# Altium footprint library SMD Footprints.PcbLib: 21 footprints (part 2 of 2)
Each footprint in its own frame and in the unit in brackets; x right, y up, seen from the top. Pads: shape width x height; smd on the part's side, far side on the other; paste and mask are expansions set on the pad; w line width, h text height; cw(c..) or ccw(c..) is an arc to the next point about the centre after c.
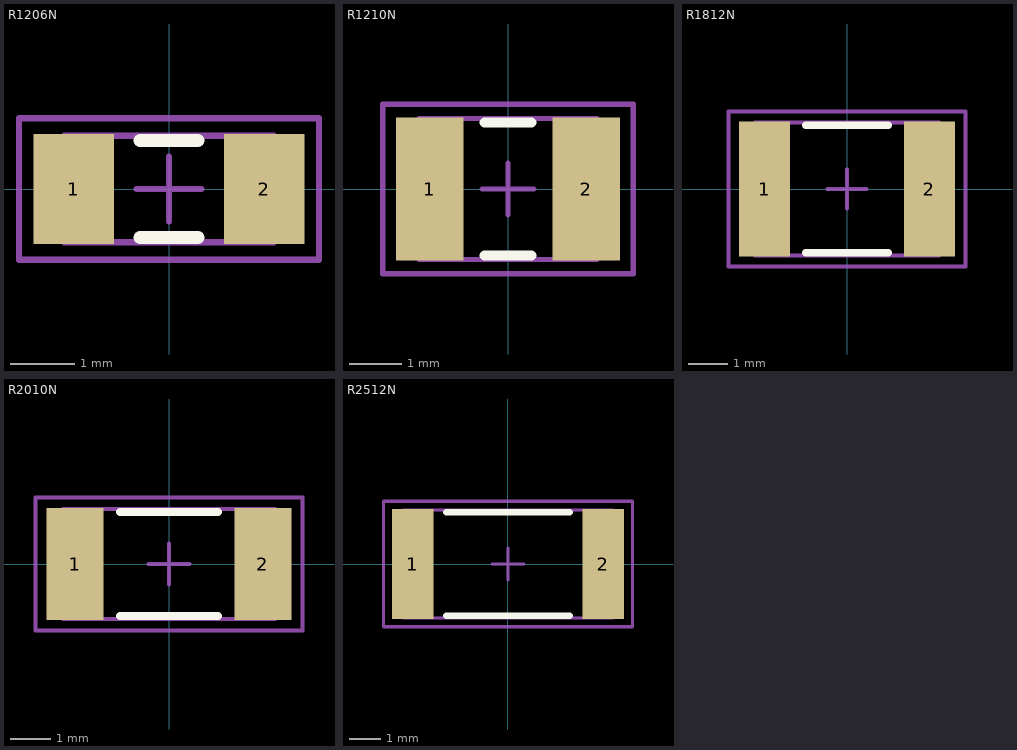
[diagram p1: the footprints below, top view; thin cyan lines are the x and y axes]

## R1206N [mm] "Chip Resistor, 2-Leads, Body 3.1x1.5mm, IPC Medium Density"
height 0.7
pads (2):
  rect 1.25x1.7 smd: 1(-1.475,0) 2(1.475,0)
Top Overlay:
  lines w0.2: -0.45,-0.75 0.45,-0.75 ; -0.45,0.75 0.45,0.75
Mechanical 13:
  lines w0.1: -1.625,-0.825 1.625,-0.825 1.625,0.825 -1.625,0.825 -1.625,-0.825
Mechanical 15:
  lines w0.1: -0.5,0 0.5,0 ; 0,-0.5 0,0.5 ; -2.325,-1.1 2.325,-1.1 2.325,1.1 -2.325,1.1 -2.325,-1.1
3D body: height 0.7, standoff 0, extent -1.625,-0.825 1.625,0.825

## R1210N [mm] "Chip Resistor, 2-Leads, Body 3.2x2.5mm, IPC Medium Density"
height 0.7
pads (2):
  rect 1.3x2.75 smd: 1(-1.5,0) 2(1.5,0)
Top Overlay:
  lines w0.2: -0.45,-1.275 0.45,-1.275 ; -0.45,1.275 0.45,1.275
Mechanical 13:
  lines w0.1: -1.7,-1.35 1.7,-1.35 1.7,1.35 -1.7,1.35 -1.7,-1.35
Mechanical 15:
  lines w0.1: -0.5,0 0.5,0 ; 0,-0.5 0,0.5 ; -2.4,-1.625 2.4,-1.625 2.4,1.625 -2.4,1.625 -2.4,-1.625
3D body: height 0.7, standoff 0, extent -1.7,-1.35 1.7,1.35

## R1812N [mm] "Chip Resistor, 2-Leads, Body 4.5x3.2mm, IPC Medium Density"
height 0.7
pads (2):
  rect 1.3x3.45 smd: 1(-2.1,0) 2(2.1,0)
Top Overlay:
  lines w0.2: -1.05,-1.625 1.05,-1.625 ; -1.05,1.625 1.05,1.625
Mechanical 13:
  lines w0.1: -2.35,-1.7 2.35,-1.7 2.35,1.7 -2.35,1.7 -2.35,-1.7
Mechanical 15:
  lines w0.1: -0.5,0 0.5,0 ; 0,-0.5 0,0.5 ; -3.025,-1.975 3.025,-1.975 3.025,1.975 -3.025,1.975 -3.025,-1.975
3D body: height 0.7, standoff 0, extent -2.35,-1.7 2.35,1.7

## R2010N [mm] "Chip Resistor, 2-Leads, Body 5.0x2.5mm, IPC Medium Density"
height 0.7
pads (2):
  rect 1.4x2.75 smd: 1(-2.3,0) 2(2.3,0)
Top Overlay:
  lines w0.2: -1.2,-1.275 1.2,-1.275 ; -1.2,1.275 1.2,1.275
Mechanical 13:
  lines w0.1: -2.6,-1.35 2.6,-1.35 2.6,1.35 -2.6,1.35 -2.6,-1.35
Mechanical 15:
  lines w0.1: -0.5,0 0.5,0 ; 0,-0.5 0,0.5 ; -3.275,-1.625 3.275,-1.625 3.275,1.625 -3.275,1.625 -3.275,-1.625
3D body: height 0.7, standoff 0, extent -2.6,-1.35 2.6,1.35

## R2512N [mm] "Chip Resistor, 2-Leads, Body 6.4x3.2mm, IPC Medium Density"
height 0.7
pads (2):
  rect 1.3x3.45 smd: 1(-3,0) 2(3,0)
Top Overlay:
  lines w0.2: -1.95,-1.625 1.95,-1.625 ; -1.95,1.625 1.95,1.625
Mechanical 13:
  lines w0.1: -3.3,-1.7 -3.3,1.7 3.3,1.7 3.3,-1.7 -3.3,-1.7
Mechanical 15:
  lines w0.1: -0.5,0 0.5,0 ; 0,-0.5 0,0.5 ; -3.925,-1.975 -3.925,1.975 3.925,1.975 3.925,-1.975 -3.925,-1.975
3D body: height 0.7, standoff 0, extent -3.3,-1.7 3.3,1.7